# Altium footprint library CAP_TH_5X12.PcbLib: 2 footprints
Each footprint in its own frame and in the unit in brackets; x right, y up, seen from the top. Pads: shape width x height; smd on the part's side, far side on the other; paste and mask are expansions set on the pad; w line width, h text height; cw(c..) or ccw(c..) is an arc to the next point about the centre after c.
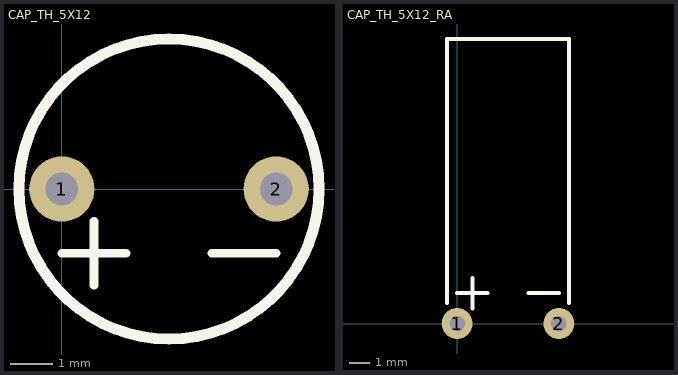
[diagram p0: the footprints below, top view; thin cyan lines are the x and y axes]

## CAP_TH_5X12 [mil] "Cap, Aluminum Electrolytic, 5mm Lead Spacing, 12mm Height, Vertical Mount"
height 472.44
pads (2):
  round 60 hole 30: 1(0,0) 2(196.85,0)
Top Overlay:
  circle w10: c98.43,0 r137.8
  lines w7.87: 0,-59.06 59.06,-59.06 ; 29.53,-88.58 29.53,-29.53 ; 137.8,-59.06 196.85,-59.06
Comp Asy Info-Top:
  text ".Designator" at 39.37,9.84 h60
3D body: height 472.44, standoff 0, extent -25.59,-123.89 222.44,123.89

## CAP_TH_5X12_RA [mil] "Cap, Aluminum Electrolytic, 5mm Lead Spacing, 12mm Height, Right Angle Mount"
height 236.22
pads (2):
  round 60 hole 30: 1(0,0) 2(196.85,0)
Top Overlay:
  lines w7.87: -19.68,39.37 -19.68,551.18 216.54,551.18 216.54,39.37 ; 0,59.06 59.06,59.06 ; 29.53,29.53 29.53,88.58 ; 137.8,59.06 196.85,59.06
Comp Asy Info-Top:
  text ".Designator" at 78.74,452.76 h60
Courtyards/Models-Top:
  lines w7.87: -19.68,39.37 -19.68,551.18 216.54,551.18 216.54,39.37
3D body: height 247.91, standoff 0.12, extent -25.59,78.74 222.44,551.18